# Altium schematic symbol library gpa_actives.SchLib: 15 symbols
Pins are listed as number, name and electrical type; pins without a type are passive.

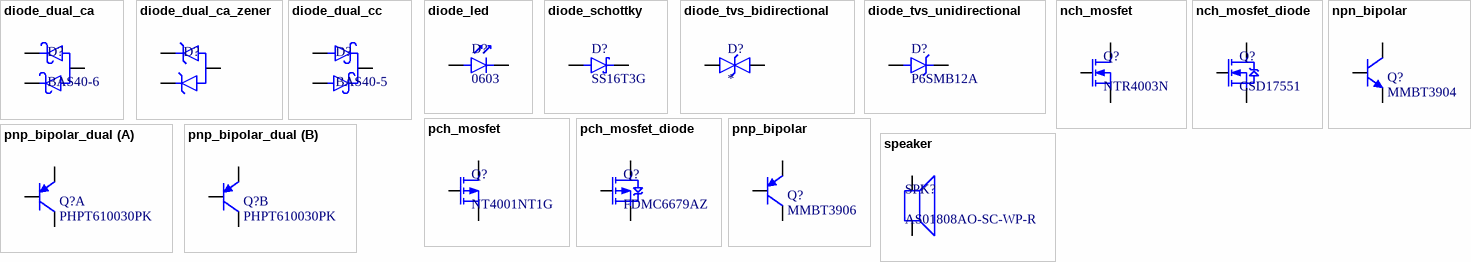
[diagram p0: symbols diode_dual_ca to speaker]

## diode_dual_ca
designator D?, comment BAS40-6
footprint DCA_SOT95P235X110-3N (SOT23, 3-Leads, Body 2.90x2.35mm, Pitch 0.95mm, IPC Medium Density)
pins: A1, A2, C

## diode_dual_ca_zener
designator D?, comment Zener  (value not drawn)
Voltage: 3.6V
footprint DCA_SOT95P235X110-3N (SOT23, 3-Leads, Body 2.90x2.35mm, Pitch 0.95mm, IPC Medium Density)
pins: A, C1, C2

## diode_dual_cc
designator D?, comment BAS40-5
footprint DCC_SOT95P235X110-3N (SOT23, 3-Leads, Body 2.90x2.35mm, Pitch 0.95mm, IPC Medium Density)
pins: A1, A2, C

## diode_led
designator D?, comment 0603
footprint LEDC1608X06N (Chip Diode, 2-Leads, Body 1.60x0.80mm, IPC Medium Density)
pins: A, C

## diode_schottky
designator D?, comment SS16T3G
footprint SMA_DIOM5226X22N (Molded Diode, 2-Leads, Body 5.21x2.60mm, IPC Medium Density)
pins: A, C

## diode_tvs_bidirectional
designator D?
pins: A, C

## diode_tvs_unidirectional
designator D?, comment P6SMB12A
footprint SMA_DIOM5226X22N (Molded Diode, 2-Leads, Body 5.21x2.60mm, IPC Medium Density)
pins: A, C

## nch_mosfet
designator Q?, comment NTR4003N
footprint NCH_SOT95P237X110-3N (SOT23, 3-Leads, Body 2.90x2.37mm, Pitch 0.95mm, IPC Medium Density)
pins: D, G, S

## nch_mosfet_diode
designator Q?, comment CSD17551
footprint NCH_SON65P330X80_HS-9N (SON, 8-Leads, Body 3.30x3.30mm, Pitch 0.65mm, Thermal Pad 2.27x1.70mm, IPC Medium Density)
pins: D, G, S

## npn_bipolar
designator Q?, comment MMBT3904
NPN Bipolar Transistor; Published: 8-Jun-2000; LatestRevisionDate: 17-Jul-2002; LatestRevisionNote: Re-released for DXP Platform.; PackageReference: TO-226-AA; Publisher: Altium Limited; PackageDescription: TO, Flat Index; 3 In-Line, Axial Leads; Body Dia. 4.8mm; Leads 0.55 x 0.51 mm (max); Code_JEDEC: TO-226-AA
footprint NPN_SOT95P230X110-3N (SOT23, 3-Leads, Body 2.90x2.30mm, Pitch 0.95mm, IPC Medium Density)
pins: B, C, E

## pch_mosfet
designator Q?, comment NT4001NT1G
footprint NCH_SOT95P237X110-3N (SOT23, 3-Leads, Body 2.90x2.37mm, Pitch 0.95mm, IPC Medium Density)
pins: D, G, S

## pch_mosfet_diode
designator Q?, comment FDMC6679AZ
footprint NCH_SON65P330X80_HS-9N (SON, 8-Leads, Body 3.30x3.30mm, Pitch 0.65mm, Thermal Pad 2.27x1.70mm, IPC Medium Density)
pins: D, G, S

## pnp_bipolar
designator Q?, comment MMBT3906
PNP Bipolar Transistor; Published: 8-Jun-2000; LatestRevisionDate: 29-May-2009; LatestRevisionNote: IPC-7351 Footprint Added.; PackageVersion: Aug-1999; PackageReference: SOT-23B; Publisher: Altium Limited; PackageDescription: 3-Pin SOT-23 Package 0.95 mm Pitch, 2.4 mm Lead Span
footprint PNP_SOT95P230X110-3N (SOT23, 3-Leads, Body 2.90x2.30mm, Pitch 0.95mm, IPC Medium Density)
pins: B, C, E

## pnp_bipolar_dual
designator Q?, comment PHPT610030PK
PNP Bipolar Transistor; Published: 8-Jun-2000; LatestRevisionDate: 29-May-2009; LatestRevisionNote: IPC-7351 Footprint Added.; PackageVersion: Aug-1999; PackageReference: SOT-23B; Publisher: Altium Limited; PackageDescription: 3-Pin SOT-23 Package 0.95 mm Pitch, 2.4 mm Lead Span
footprint NXP_LFPAK56D127P610X105-8N (SOIC, 8-Leads, Body 5.13x4.58mm, Pitch 1.27mm, IPC Medium Density)
part A pins: B1, C1, E1
part B pins: B2, C2, E2

## speaker
designator SPK?, comment AS01808AO-SC-WP-R
footprint pui_audio_speaker
pins: 1, 2